# EAGLE library part BQ24600 (library BQ24600)
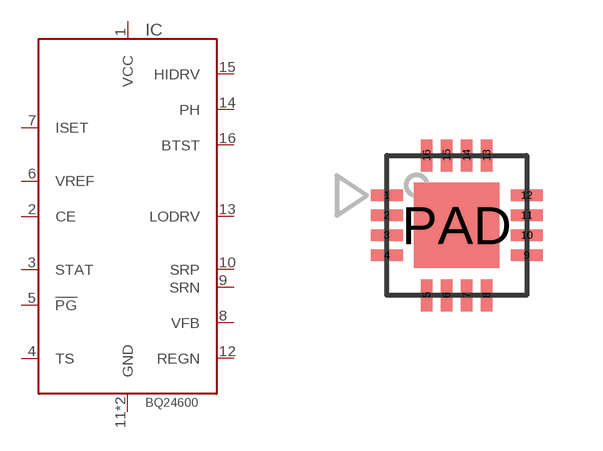
[diagram p0: symbol with the pads of QFN16-0.5-3.5X3.5; footprint QFN16-0.5-3.5X3.5]

Designator prefix IC

## BQ24600RVA (MF: Texas Instruments; MPN: BQ24600RVA)  [QFN16-0.5-3.5X3.5]
1  VCC  pwr
2  CE
3  STAT  oc
4  TS  in
5  !PG  oc
6  VREF
7  ISET  in
8  VFB  in
9  SRN  in
10  SRP  in
11  GND  pwr
12  REGN  in
13  LODRV  out
14  PH  in
15  HIDRV  out
16  BTST
PAD  GND  pwr

## Footprint QFN16-0.5-3.5X3.5 (pad centres in mm)
smd 0.8 x 0.28: 1 -1.75,0.75; 2 -1.75,0.25; 3 -1.75,-0.25; 4 -1.75,-0.75; 9 1.75,-0.75; 10 1.75,-0.25; 11 1.75,0.25; 12 1.75,0.75
smd 0.28 x 0.8: 5 -0.75,-1.75; 6 -0.25,-1.75; 7 0.25,-1.75; 8 0.75,-1.75; 13 0.75,1.75; 14 0.25,1.75; 15 -0.25,1.75; 16 -0.75,1.75
smd 2.14 x 2.14: PAD 0,0